# Altium footprint library PcbLib1.PcbLib: 26 footprints (part 1 of 2)
Each footprint in its own frame and in the unit in brackets; x right, y up, seen from the top. Pads: shape width x height; smd on the part's side, far side on the other; paste and mask are expansions set on the pad; w line width, h text height; cw(c..) or ccw(c..) is an arc to the next point about the centre after c.
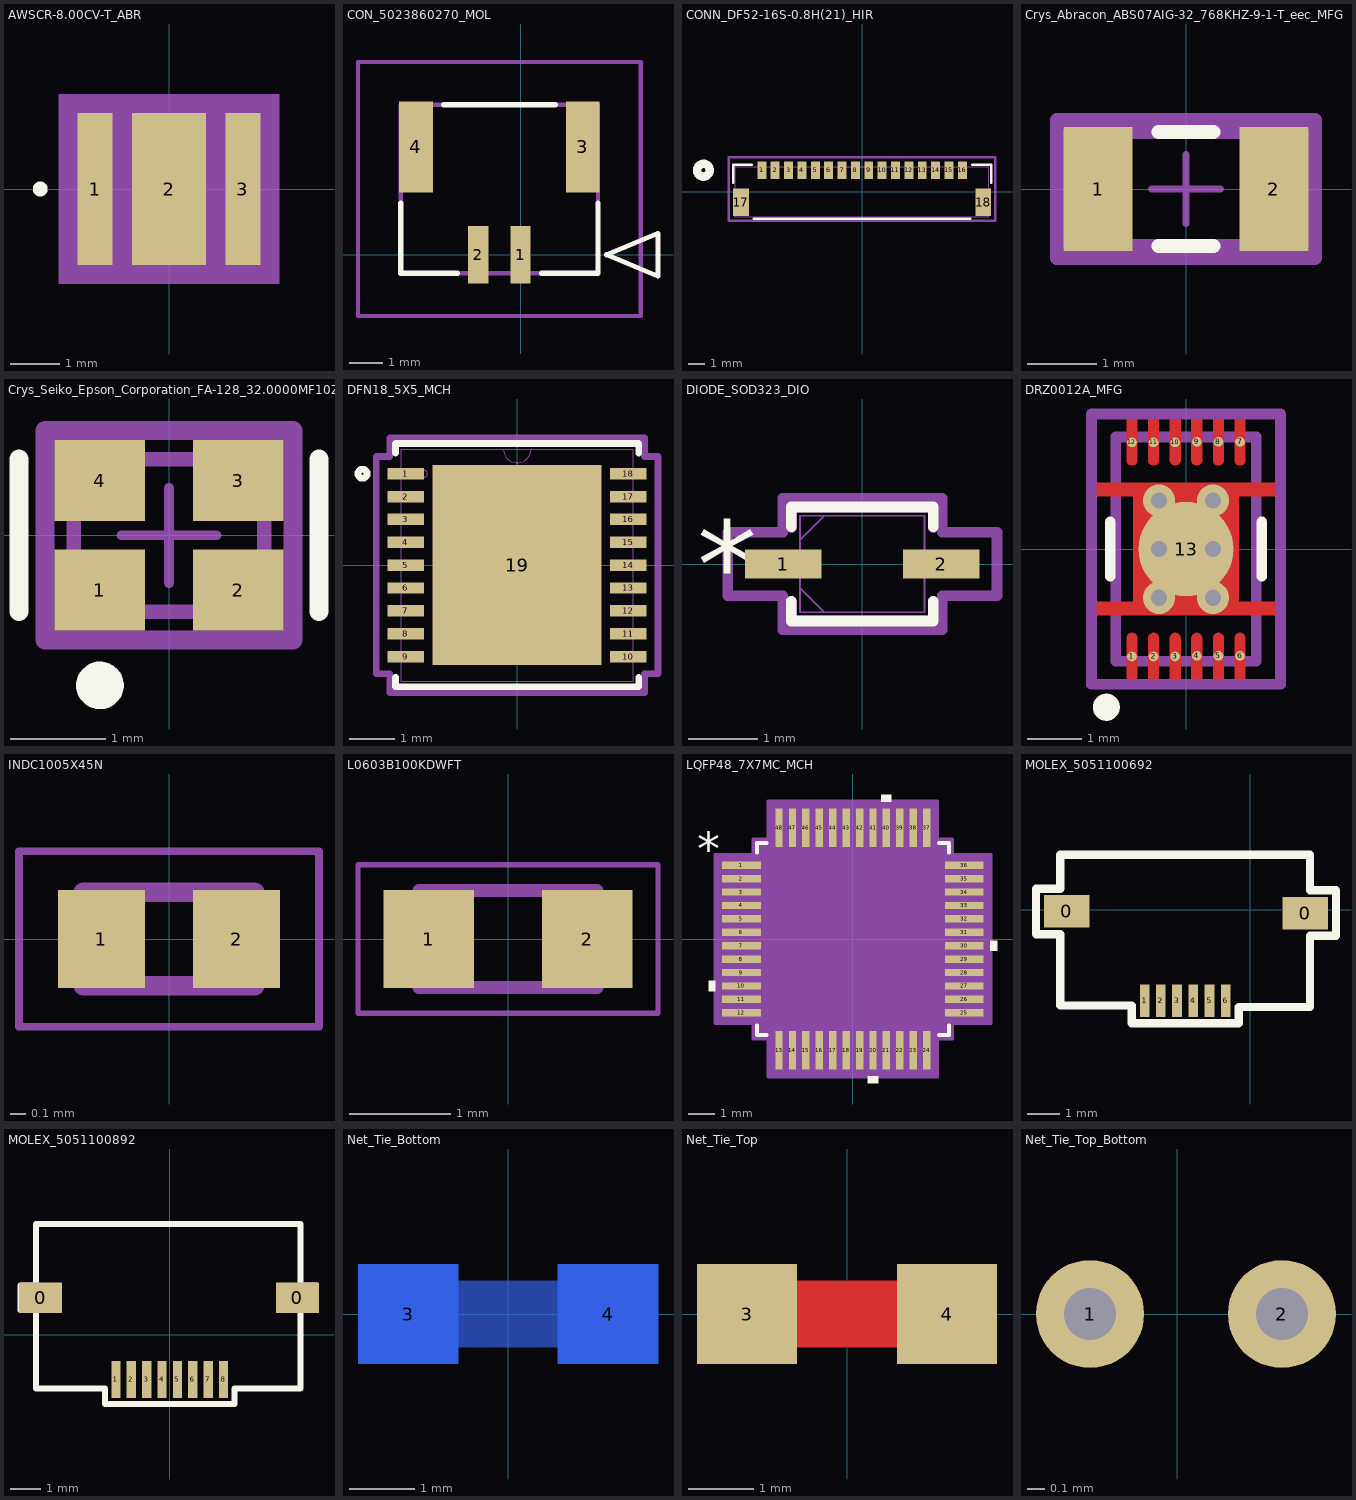
[diagram p0: the footprints below, top view; thin cyan lines are the x and y axes]

## AWSCR-8.00CV-T_ABR [mil]
pads (3):
  rect 28x122 smd paste+0 mask+0: 1(-59.06,0) 3(59.06,0)
  rect 59x122 smd paste+0 mask+0: 2(0,0)
Top Overlay:
  circle w6: c-103.06,0 r3
Mechanical 5:
  region: 88.06,-76 -88.06,-76 -88.06,76 88.06,76
Mechanical 13:
  circle w0: c-70,0 r3
  lines w1: -73,-61 -73,61 73,61 73,-61 -73,-61
Mechanical 15:
  region: 73,-61 -73,-61 -73,61 73,61
  region: -83.06,-71 -83.06,71 -35.06,71 -39.5,71 39.5,71 35.06,71 83.06,71 83.06,-71 35.06,-71 39.5,-71 -39.5,-71 -35.06,-71
  lines w6: -83.06,-71 -35.06,-71 -39.5,-71 39.5,-71 35.06,-71 83.06,-71 83.06,71 35.06,71 39.5,71 -39.5,71 -35.06,71 -83.06,71 -83.06,-71
3D body: height 10, standoff 0, extent 0,0 10,10
3D body "AWSCR-8.00CV-T--3DModel-STEP-400430.STEP": height 47.94, standoff 0.3, extent -72.83,-61.21 72.84,61.23

## CON_5023860270_MOL [mm]
pads (4):
  rect 0.6x1.7 smd paste+0 mask+0.076: 1(0,0) 2(-1.25,0)
  rect 1x2.7 smd paste+0 mask+0.076: 3(1.85,3.2) 4(-3.1,3.2)
Top Overlay:
  lines w0.152: -3.55,1.53 -3.55,-0.55 -1.87,-0.55 ; -2.28,4.45 1.03,4.45 ; 0.62,-0.55 2.3,-0.55 2.3,1.53 ; 2.554,0 4.078,0.635 4.078,-0.635 2.554,0
Mechanical 13:
  lines w0.127: -3.55,-0.55 2.3,-0.55 2.3,4.45 -3.55,4.45 -3.55,-0.55 ; 2.554,0 4.078,0.635 4.078,-0.635 2.554,0
Mechanical 15:
  lines w0.127: -4.82,-1.82 -4.82,5.72 3.57,5.72 3.57,-1.82 -4.82,-1.82
3D body: height 0.25, standoff 0, extent 0,0 0.254,0.254
3D body "5023860270.stp": height 5.56, standoff 0.01, extent -3.525,-0.5 2.325,4.5

## CONN_DF52-16S-0.8H(21)_HIR [mil]
pads (18):
  rect 21x41 smd paste+0 mask+0: 1(-236.22,50.63) 2(-204.72,50.63) 3(-173.23,50.63) 4(-141.73,50.63) 5(-110.24,50.63) 6(-78.74,50.63) 7(-47.24,50.63) 8(-15.75,50.63) 9(15.75,50.63) 10(47.24,50.63) 11(78.74,50.63) 12(110.24,50.63) 13(141.73,50.63) 14(173.23,50.63) 15(204.72,50.63) 16(236.22,50.63)
  rect 37x65 smd: 17(-285.43,-24.96) 18(285.43,-24.96)
Top Overlay:
  circle w20: c-374,50.63 r15
  lines w6: -304,20.64 -304,63.5 -259.82,63.5 ; -255.31,-63.5 255.31,-63.5 ; 259.82,63.5 304,63.5 304,20.64
Bottom Overlay:
  circle w20: c-374,50.63 r15
Mechanical 13:
  lines w1: -299,-58.5 299,-58.5 299,58.5 -299,58.5 -299,-58.5
Mechanical 15:
  lines w6: -313.93,-68.5 -313.93,81.13 313.93,81.13 313.93,-68.5 -313.93,-68.5
3D body "DF52-16S-0.8H-21---3DModel-STEP-1.STEP": height 69.4, standoff 0.5, extent -295.28,-55.12 295.28,53.94
3D body: height 10, standoff 0, extent 0,0 10,10

## Crys_Abracon_ABS07AIG-32_768KHZ-9-1-T_eec_MFG [mm]
pads (2):
  rect 1x1.8 smd paste+0 mask+0: 1(-1.275,0) 2(1.275,0)
Top Overlay:
  lines w0.2: -0.4,-0.825 0.4,-0.825 ; -0.4,0.825 0.4,0.825
Mechanical 10:
  lines w0.2: -1.875,-1 -1.875,1 1.875,1 1.875,-1 -1.875,-1
  text ".Designator" at 0,0.187 h1
Mechanical 12:
  lines w0.2: -1.675,-0.825 -1.675,0.825 1.675,0.825 1.675,-0.825 -1.675,-0.825
Mechanical 15:
  lines w0.1: -0.5,0 0.5,0 ; 0,-0.5 0,0.5
  lines w0.2: -1.875,-1 -1.875,1 1.875,1 1.875,-1 -1.875,-1
3D body "Crys_Abracon_ABS07AIG-32_768KHZ-9-1-T_eec.STEP": height 0.25, standoff 0, extent -1.875,-1 1.875,1

## Crys_Seiko_Epson_Corporation_FA-128_32.0000MF10Z-AJ3_eec_0 [mm]
pads (4):
  rect 0.95x0.85 smd paste+0 mask+0: 1(-0.725,-0.575) 2(0.725,-0.575) 3(0.725,0.575) 4(-0.725,0.575)
Top Overlay:
  circle w0.25: c-0.725,-1.575 r0.125
  lines w0.2: -1.575,-0.8 -1.575,0.8 ; 1.575,-0.8 1.575,0.8
Mechanical 10:
  lines w0.2: -1.3,-1.1 1.3,-1.1 1.3,1.1 -1.3,1.1 -1.3,-1.1
  text ".Designator" at 0,0 h1
Mechanical 12:
  lines w0.15: -1,-0.8 1,-0.8 1,0.8 -1,0.8 -1,-0.8
Mechanical 15:
  lines w0.1: -0.5,0 0.5,0 ; 0,-0.5 0,0.5
  lines w0.2: -1.3,-1.1 1.3,-1.1 1.3,1.1 -1.3,1.1 -1.3,-1.1
3D body "Crys_Seiko_Epson_Corporation_FA-128_32.0000MF10Z-AJ3_eec.STEP": height 0.25, standoff 0, extent -1.3,-1.1 1.3,1.1

## DFN18_5X5_MCH [mil]
pads (19):
  rect 31.81x10.03 smd paste+0 mask+0: 1(-97.41,80) 2(-97.41,60) 3(-97.41,40) 4(-97.41,20) 5(-97.41,0) 6(-97.41,-20) 7(-97.41,-40) 8(-97.41,-60) 9(-97.41,-80) 10(97.41,-80) 11(97.41,-60) 12(97.41,-40) 13(97.41,-20) 14(97.41,0) 15(97.41,20) 16(97.41,40) 17(97.41,60) 18(97.41,80)
  rect 148x175 smd paste+0 mask+0: 19(0,0)
Top Overlay:
  circle w6: c-135.31,80 r4
  lines w6: -106.5,-98.12 -106.5,-106.5 106.5,-106.5 106.5,-98.12 ; -106.5,98.12 -106.5,106.5 106.5,106.5 106.5,98.12
Top Paste:
  region: -3.94,83.56 -70.06,83.56 -70.06,33.1 -3.94,33.1
  region: -3.94,25.23 -70.06,25.23 -70.06,-25.23 -3.94,-25.23
  region: -3.94,-33.1 -70.06,-33.1 -70.06,-83.56 -3.94,-83.56
  region: 70.06,83.56 3.94,83.56 3.94,33.1 70.06,33.1
  region: 70.06,25.23 3.94,25.23 3.94,-25.23 70.06,-25.23
  region: 70.06,-33.1 3.94,-33.1 3.94,-83.56 70.06,-83.56
Mechanical 13:
  circle w0: c-81.5,80 r3
  lines w0: -12,101.5 ccw(c0,101.5) 12,101.5
  lines w1: -101.5,-101.5 101.5,-101.5 101.5,101.5 -101.5,101.5 -101.5,-101.5
Mechanical 15:
  lines w6: -123.31,-95.02 -123.31,95.02 -111.5,95.02 -111.5,111.5 111.5,111.5 111.5,95.02 123.31,95.02 123.31,-95.02 111.5,-95.02 111.5,-111.5 -111.5,-111.5 -111.5,-95.02 -123.31,-95.02
3D body "DFN18_5X5_MCH.step": height 39.09, standoff 0, extent -101.5,-101.5 101.5,101.5

## DIODE_SOD323_DIO [mil]
pads (2):
  rect 43.56x16.36 smd paste+0 mask+0: 1(-45,0) 2(45,0)
Top Overlay:
  lines w6: -40.5,-21.28 -40.5,-32.5 40.5,-32.5 40.5,-21.28 ; -40.5,21.28 -40.5,32.5 40.5,32.5 40.5,21.28
  text "*" at -94.28,-25 h50
Top Assembly:
  lines w5.98: -40.35,-21.65 -40.35,-32.48 40.35,-32.48 40.35,-21.65 ; -40.35,20.67 -40.35,32.48 40.35,32.48 40.35,20.67
  text ".Designator" at -54.13,-28.54 h39.37
  text "BD" at 19.68,11.81 h23.62
Mechanical 13:
  lines w1: -35.5,-13.75 -21.75,-27.5 ; -35.5,13.75 -21.75,27.5 ; -53,-7 -35.5,-7 -35.5,7 -53,7 -53,-7 ; -35.5,-27.5 -35.5,27.5 35.5,27.5 35.5,-27.5 -35.5,-27.5 ; 35.5,-7 53,-7 53,7 35.5,7 35.5,-7
  text "*" at -38,-25 h50
Mechanical 15:
  lines w6: -76.78,-18.18 -45.5,-18.18 -45.5,-37.5 45.5,-37.5 45.5,-18.18 76.78,-18.18 76.78,18.18 45.5,18.18 45.5,37.5 -45.5,37.5 -45.5,18.18 -76.78,18.18 -76.78,-18.18
3D body "DIODE_SOD323_DIO.step": height 47.09, standoff 0, extent -52.99,-27.48 52.99,27.48

## DRZ0012A_MFG [mm]
pads (13):
  round 0.18 smd paste-1000 mask+0: 1(-1,-1.985) 2(-0.6,-1.985) 3(-0.2,-1.985) 4(0.2,-1.975) 5(0.6,-1.975) 6(1,-1.975) 7(1,1.985) 8(0.6,1.985) 9(0.2,1.985) 10(-0.2,1.975) 11(-0.6,1.975) 12(-1,1.975)
  round 1.755 smd paste-1000 mask+0: 13(0,0)
via -0.5,0.9 diameter 0.6 hole 0.3
via -0.5,0 diameter 0.6 hole 0.3
via -0.5,-0.9 diameter 0.6 hole 0.3
via 0.5,0.9 diameter 0.6 hole 0.3
via 0.5,0 diameter 0.6 hole 0.3
via 0.5,-0.9 diameter 0.6 hole 0.3
Top Layer:
  region: -1.1,-2.4 -1.1,-1.65 -1.1,-1.63 -1.085,-1.593 -1.057,-1.565 -1.02,-1.55 -1,-1.55 -0.98,-1.55 -0.943,-1.565 -0.915,-1.593 -0.9,-1.63 -0.9,-1.65 -0.9,-2.4
  region: -0.7,-2.4 -0.7,-1.65 -0.7,-1.63 -0.685,-1.593 -0.657,-1.565 -0.62,-1.55 -0.6,-1.55 -0.58,-1.55 -0.543,-1.565 -0.515,-1.593 -0.5,-1.63 -0.5,-1.65 -0.5,-2.4
  region: -0.3,-2.4 -0.3,-1.65 -0.3,-1.63 -0.285,-1.593 -0.257,-1.565 -0.22,-1.55 -0.2,-1.55 -0.18,-1.55 -0.143,-1.565 -0.115,-1.593 -0.1,-1.63 -0.1,-1.65 -0.1,-2.4
  region: 0.1,-2.4 0.1,-1.65 0.1,-1.63 0.115,-1.593 0.143,-1.565 0.18,-1.55 0.2,-1.55 0.22,-1.55 0.257,-1.565 0.285,-1.593 0.3,-1.63 0.3,-1.65 0.3,-2.4
  region: 0.5,-2.4 0.5,-1.65 0.5,-1.63 0.515,-1.593 0.543,-1.565 0.58,-1.55 0.6,-1.55 0.62,-1.55 0.657,-1.565 0.685,-1.593 0.7,-1.63 0.7,-1.65 0.7,-2.4
  region: 0.9,-2.4 0.9,-1.65 0.9,-1.63 0.915,-1.593 0.943,-1.565 0.98,-1.55 1,-1.55 1.02,-1.55 1.057,-1.565 1.085,-1.593 1.1,-1.63 1.1,-1.65 1.1,-2.4
  region: 1.1,2.4 1.1,1.65 1.1,1.63 1.085,1.593 1.057,1.565 1.02,1.55 1,1.55 0.98,1.55 0.943,1.565 0.915,1.593 0.9,1.63 0.9,1.65 0.9,2.4
  region: 0.7,2.4 0.7,1.65 0.7,1.63 0.685,1.593 0.657,1.565 0.62,1.55 0.6,1.55 0.58,1.55 0.543,1.565 0.515,1.593 0.5,1.63 0.5,1.65 0.5,2.4
  region: 0.3,2.4 0.3,1.65 0.3,1.63 0.285,1.593 0.257,1.565 0.22,1.55 0.2,1.55 0.18,1.55 0.143,1.565 0.115,1.593 0.1,1.63 0.1,1.65 0.1,2.4
  region: -0.1,2.4 -0.1,1.65 -0.1,1.63 -0.115,1.593 -0.143,1.565 -0.18,1.55 -0.2,1.55 -0.22,1.55 -0.257,1.565 -0.285,1.593 -0.3,1.63 -0.3,1.65 -0.3,2.4
  region: -0.5,2.4 -0.5,1.65 -0.5,1.63 -0.515,1.593 -0.543,1.565 -0.58,1.55 -0.6,1.55 -0.62,1.55 -0.657,1.565 -0.685,1.593 -0.7,1.63 -0.7,1.65 -0.7,2.4
  region: -0.9,2.4 -0.9,1.65 -0.9,1.63 -0.915,1.593 -0.943,1.565 -0.98,1.55 -1,1.55 -1.02,1.55 -1.057,1.565 -1.085,1.593 -1.1,1.63 -1.1,1.65 -1.1,2.4
  region: -1.65,1.225 1.65,1.225 1.65,0.975 0.975,0.975 0.975,-0.975 1.65,-0.975 1.65,-1.225 -1.65,-1.225 -1.65,-0.975 -0.975,-0.975 -0.975,0.975 -1.65,0.975
Top Overlay:
  circle w0.25: c-1.475,-2.925 r0.125
  lines w0.2: -1.4,-0.5 -1.4,0.5 ; 1.4,-0.5 1.4,0.5
Top Paste:
  drawing of 20 lines, arcs and shapes, not listed
Mechanical 10:
  lines w0.2: -1.75,-2.5 1.75,-2.5 1.75,2.5 -1.75,2.5 -1.75,-2.5
  text ".Designator" at 0,0.187 h1
Mechanical 12:
  lines w0.2: -1.3,-2.075 1.3,-2.075 1.3,2.075 -1.3,2.075 -1.3,-2.075
Mechanical 15:
  lines w0.1: -0.5,0 0.5,0 ; 0,-0.5 0,0.5
  lines w0.2: -1.75,-2.5 1.75,-2.5 1.75,2.5 -1.75,2.5 -1.75,-2.5
3D body "IC_Texas_Instruments_BQ27441DRZT-G1B_eec.STEP": height 0.25, standoff 0, extent -1.75,-2.5 1.75,2.5

## INDC1005X45N [mm]
pads (2):
  rect 0.56x0.63 smd: 1(-0.435,0) 2(0.435,0)
Mechanical 13:
  lines w0.127: -0.55,-0.3 -0.55,0.3 0.55,0.3 0.55,-0.3 -0.55,-0.3
Mechanical 15:
  lines w0.05: -0.965,-0.565 -0.965,0.565 0.965,0.565 0.965,-0.565 -0.965,-0.565
3D body "LQP15MN3N9B02D.STEP": height 0.46, standoff 0.01, extent -0.5,-0.25 0.5,0.25

## L0603B100KDWFT [mm]
pads (2):
  rect 0.9x0.97 smd: 1(-0.785,0) 2(0.785,0)
Mechanical 13:
  lines w0.127: -0.88,-0.48 0.88,-0.48 0.88,0.48 -0.88,0.48 -0.88,-0.48
Mechanical 15:
  lines w0.05: -1.485,-0.735 1.485,-0.735 1.485,0.735 -1.485,0.735 -1.485,-0.735
3D body "L0603B100KDWFT.STEP": height 0.81, standoff 0.01, extent -0.8,-0.467 0.8,0.483

## LQFP48_7X7MC_MCH [mil]
pads (48):
  rect 57.56x11 smd paste+0 mask+0: 1(-166,110) 2(-166,90) 3(-166,70) 4(-166,50) 5(-166,30) 6(-166,10) 7(-166,-10) 8(-166,-30) 9(-166,-50) 10(-166,-70) 11(-166,-90) 12(-166,-110) 25(166,-110) 26(166,-90) 27(166,-70) 28(166,-50) 29(166,-30) 30(166,-10) 31(166,10) 32(166,30) 33(166,50) 34(166,70) 35(166,90) 36(166,110)
  rect 11x57.56 smd paste+0 mask+0: 13(-110,-166) 14(-90,-166) 15(-70,-166) 16(-50,-166) 17(-30,-166) 18(-10,-166) 19(10,-166) 20(30,-166) 21(50,-166) 22(70,-166) 23(90,-166) 24(110,-166) 37(110,166) 38(90,166) 39(70,166) 40(50,166) 41(30,166) 42(10,166) 43(-10,166) 44(-30,166) 45(-50,166) 46(-70,166) 47(-90,166) 48(-110,166)
Top Overlay:
  region: -204.78,-62.5 -214.78,-62.5 -214.78,-77.5 -204.78,-77.5
  region: 37.5,-204.78 22.5,-204.78 22.5,-214.78 37.5,-214.78
  region: 204.78,-2.5 214.78,-2.5 214.78,-17.5 204.78,-17.5
  region: 57.5,204.78 42.5,204.78 42.5,214.78 57.5,214.78
  lines w6: -143,-128.6 -143,-143 -128.6,-143 ; -143,128.6 -143,143 -128.6,143 ; 128.6,-143 143,-143 143,-128.6 ; 128.6,143 143,143 143,128.6
  text "*" at -232.28,110 h50
Mechanical 13:
  drawing of 197 lines, arcs and shapes, not listed
  text "*" at -135.5,95 h50
Mechanical 15:
  region: -125.5,-148 -148,-148 -148,-125.5 -204.78,-125.5 -204.78,125.5 -148,125.5 -148,148 -125.5,148 -125.5,204.78 125.5,204.78 125.5,148 148,148 148,125.5 204.78,125.5 204.78,-125.5 148,-125.5 148,-148 125.5,-148 125.5,-204.78 -125.5,-204.78
  lines w6: -204.78,-125.5 -148,-125.5 -148,-148 -125.5,-148 -125.5,-204.78 125.5,-204.78 125.5,-148 148,-148 148,-125.5 204.78,-125.5 204.78,125.5 148,125.5 148,148 125.5,148 125.5,204.78 -125.5,204.78 -125.5,148 -148,148 -148,125.5 -204.78,125.5 -204.78,-125.5
3D body "LQFP48_7X7MC_MCH.step": height 63.11, standoff 0, extent -180.98,-180.98 180.98,180.98

## MOLEX_5051100692 [mm]
pads (8):
  rect 1.4x1 smd: 0(-5.65,-0.05) 0(1.7,-0.1)
  rect 0.3x1 smd: 1(-3.25,-2.8) 2(-2.75,-2.8) 3(-2.25,-2.8) 4(-1.75,-2.8) 5(-1.25,-2.8) 6(-0.75,-2.8)
Top Overlay:
  lines w0.254: -5.9,-0.75 -6.6,-0.75 -6.6,-0.1 -6.6,0.65 -5.85,0.65 -5.85,1.7 -5.15,1.7 1.85,1.7 1.85,0.6 2.65,0.6 2.65,-0.8 1.85,-0.8 1.85,-1.65 1.85,-3 ; -5.85,-0.75 -5.85,-1.75 -5.85,-2.95 -3.65,-2.95 -3.65,-3.5 -0.35,-3.5 -0.35,-3 0.2,-3 1.8,-3
3D body "5051100692.stp": height 1.88, standoff -0.02, extent -6.25,-3 2.25,2.3

## MOLEX_5051100892 [mm]
pads (10):
  rect 1.4x1 smd: 0(-4.2,1.2) 0(4.15,1.2)
  rect 0.3x1.2 smd: 1(-1.75,-1.45) 2(-1.25,-1.45) 3(-0.75,-1.45) 4(-0.25,-1.45) 5(0.25,-1.45) 6(0.75,-1.45) 7(1.25,-1.45) 8(1.75,-1.45)
Top Overlay:
  lines w0.2: -4.85,0.8 -4.85,1.6 -4.35,1.6 -4.35,3.6 4.25,3.6 4.25,1.6 4.75,1.6 4.75,0.8 4.25,0.8 4.25,-1.75 2.1,-1.75 2.1,-2.25 -2.1,-2.25 -2.1,-1.75 -4.35,-1.75 -4.35,0.8 -4.85,0.8
3D body "5051100892.stp": height 1.88, standoff -0.02, extent -4.75,-1.65 4.75,3.65

## Net_Tie_Bottom [mil]
pads (2):
  rect 60x60 smd far side: 3(-60,0) 4(60,0)
Bottom Layer:
  rectangle: -40,-20 40,20

## Net_Tie_Top [mil]
pads (2):
  rect 60x60 smd: 3(-60,0) 4(60,0)
Top Layer:
  rectangle: -40,-20 40,20

## Net_Tie_Top_Bottom [mm]
pads (2):
  round 0.62 hole 0.3 mask+0.102: 1(-0.5,0) 2(0.6,0)
Multi-Layer:
  rectangle: -0.225,-0.1 0.325,0.1